# EAGLE library part SN65HVD230 (library evansLibrary)
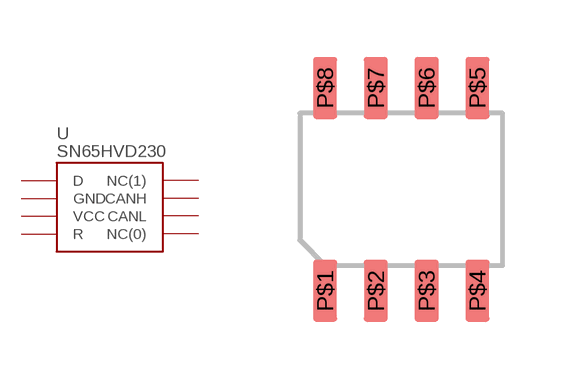
[diagram p8: symbol with the pads of E_SOIC8; footprint E_SOIC8]

Designator prefix -

## SN65HVD230-SOIC8  [E_SOIC8]
P$1  D
P$2  GND
P$3  VCC
P$4  R
P$5  NC(1)
P$6  CANL
P$7  CANH
P$8  NC(0)

## Footprint E_SOIC8 (pad centres in mm)
smd 0.6 x 1.55: P$1 -1.905,-2.54; P$2 -0.635,-2.54; P$3 0.635,-2.54; P$4 1.905,-2.54; P$5 1.905,2.54; P$6 0.635,2.54; P$7 -0.635,2.54; P$8 -1.905,2.54